# Altium footprint library STM32F4.PcbLib: 30 footprints (part 2 of 2)
Each footprint in its own frame and in the unit in brackets; x right, y up, seen from the top. Pads: shape width x height; smd on the part's side, far side on the other; paste and mask are expansions set on the pad; w line width, h text height; cw(c..) or ccw(c..) is an arc to the next point about the centre after c.
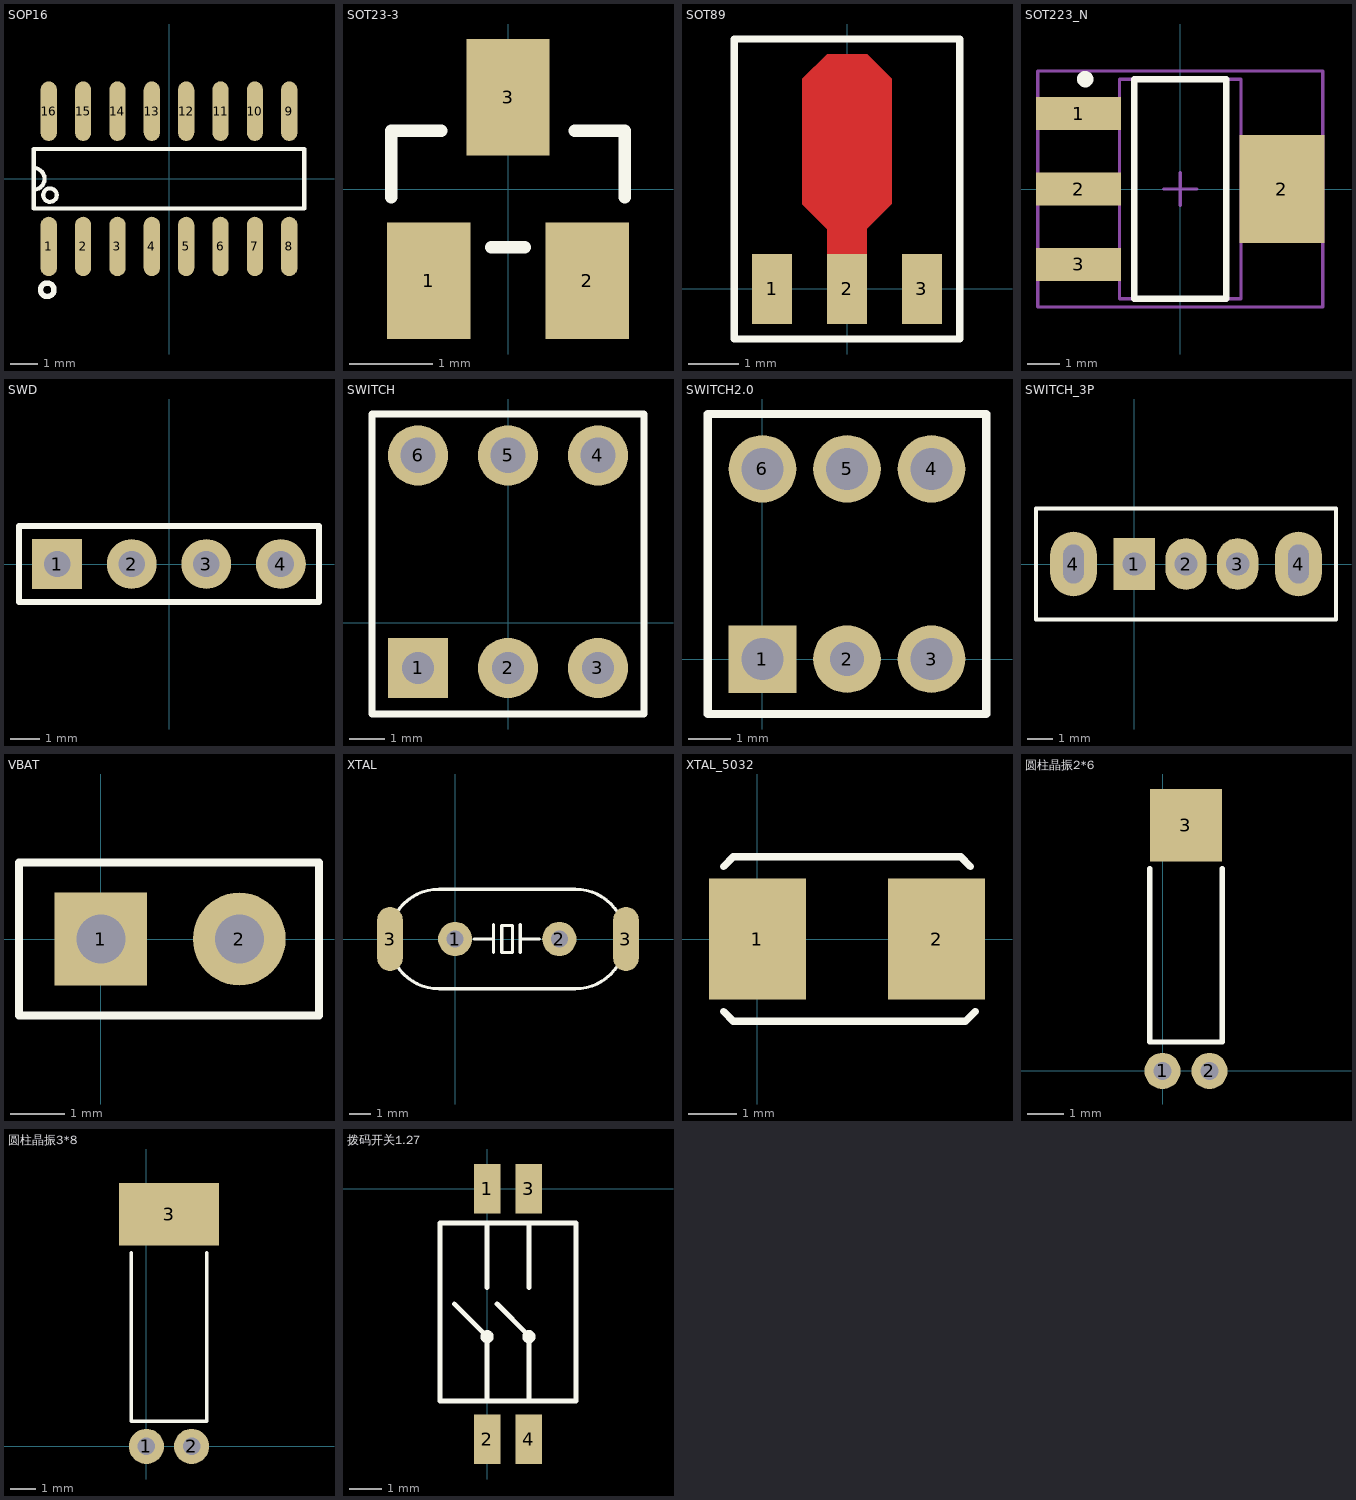
[diagram p1: the footprints below, top view; thin cyan lines are the x and y axes]

## SOP16 [mm]
pads (16):
  oval 0.6x2.2 smd: 1(-4.445,-2.5) 2(-3.175,-2.5) 3(-1.905,-2.5) 4(-0.635,-2.5) 5(0.635,-2.5) 6(1.905,-2.5) 7(3.175,-2.5) 8(4.445,-2.5) 9(4.445,2.5) 10(3.175,2.5) 11(1.905,2.5) 12(0.635,2.5) 13(-0.635,2.5) 14(-1.905,2.5) 15(-3.175,2.5) 16(-4.445,2.5)
Top Overlay:
  circle w0.2: c-4.5,-4.1 r0.25
  circle w0.15: c-4.4,-0.6 r0.25
  lines w0.15: -5,-0.4 ccw(c-5,0) -5,0.4 ; -5,-1.1 5,-1.1 5,1.1 -5,1.1 -5,-1.1

## SOT23-3 [mm]
pads (3):
  rect 1x1.4 smd: 1(-0.95,-1.1) 2(0.95,-1.1) 3(0,1.1)
Top Overlay:
  lines w0.15: -1.4,-0.1 -1.4,0.7 -0.8,0.7 ; -0.2,-0.7 0.2,-0.7 ; 0.8,0.7 1.4,0.7 1.4,-0.1

## SOT89 [mm]
pads (3):
  rect 0.8x1.4 smd: 1(-1.5,0) 2(0,0) 3(1.5,0)
Top Layer:
  rectangle: -0.4,0.6 0.4,1.2
  region: 0,0.8 0.9,1.7 0,2.6 -0.9,1.7
  rectangle: -0.9,1.7 0.9,4.2
  rectangle: -0.4,4.1 0.4,4.7
  region: -0.398,3.698 0.102,4.198 -0.4,4.7 -0.9,4.2
  region: 0.402,3.702 0.9,4.2 0.4,4.7 -0.098,4.202
Top Overlay:
  lines w0.15: -2.25,-1 2.25,-1 2.25,5 -2.25,5 -2.25,-1
Top Solder:
  rectangle: -0.5,0.8 0.5,4.8
  rectangle: -1,1.6 1,4.3
  region: 0,0.6 1,1.6 0,2.6 -1,1.6
  region: 0.646,3.946 1,4.3 0.5,4.8 0.146,4.446
  region: -0.146,4.446 -0.5,4.8 -1,4.3 -0.646,3.947

## SOT223_N [mm]
pads (4):
  rect 2.6x1 smd: 1(-3.1,2.3) 2(-3.1,0) 3(-3.1,-2.3)
  rect 2.6x3.3 smd: 2(3.1,0)
Top Overlay:
  circle w0.25: c-2.9,3.35 r0.125
  lines w0.2: -1.4,-3.35 -1.4,3.35 1.4,3.35 1.4,-3.35 -1.4,-3.35
Mechanical 13:
  lines w0.1: -1.85,-3.35 -1.85,3.35 1.85,3.35 1.85,-3.35 -1.85,-3.35
Mechanical 15:
  lines w0.1: -0.5,0 0.5,0 ; 0,-0.5 0,0.5 ; -4.35,-3.6 -4.35,3.6 4.35,3.6 4.35,-3.6 -4.35,-3.6

## SWD [mm]
pads (4):
  rect 1.7x1.7 hole 0.9: 1(-3.81,0)
  round 1.7 hole 0.9: 2(-1.27,0) 3(1.27,0) 4(3.81,0)
Top Overlay:
  lines w0.2: -5.11,-1.3 -5.11,1.3 5.11,1.3 5.11,-1.3 -5.11,-1.3

## SWITCH [mm]
pads (6):
  rect 1.7x1.7 hole 0.9: 1(-2.54,-1.27)
  round 1.7 hole 0.9: 2(0,-1.27) 3(2.54,-1.27)
  round 1.7 hole 1: 4(2.54,4.73) 5(0,4.73) 6(-2.54,4.73)
Top Overlay:
  lines w0.2: -3.84,-2.57 3.84,-2.57 3.84,5.9 -3.84,5.9 -3.84,-2.57

## SWITCH2.0 [mm]
pads (6):
  rect 1.6x1.6 hole 1: 1(0,0)
  round 1.6 hole 0.8: 2(2,0)
  round 1.6 hole 1: 3(4,0) 4(4,4.5) 5(2,4.5) 6(0,4.5)
Top Overlay:
  lines w0.2: -1.3,-1.3 5.3,-1.3 5.3,5.8 -1.3,5.8 -1.3,-1.3

## SWITCH_3P [mm]
pads (5):
  rect 1.6x2 hole 0.9: 1(0,0)
  oval 1.6x2 hole 0.9: 2(2,0) 3(4,0)
  oval 1.8x2.5 hole 1.5 slot 0.8 at 0 deg: 4(-2.35,0) 4(6.35,0)
Top Overlay:
  lines w0.15: -3.8,-2.15 -3.8,2.15 7.8,2.15 7.8,-2.15 -3.8,-2.15

## VBAT [mm]
pads (2):
  rect 1.7x1.7 hole 0.9: 1(0,0)
  round 1.7 hole 0.9: 2(2.54,0)
Top Overlay:
  lines w0.15: -1.5,-1.4 4,-1.4 4,1.4 -0.9,1.4 -1.5,1.4 -1.5,-1.4

## XTAL [mm]
pads (4):
  round 1.6 hole 0.8: 1(0,0) 2(4.88,0)
  oval 1.2x3 smd: 3(-3.048,0) 3(8.001,0)
Top Overlay:
  lines w0.15: 0.889,0 1.8,0 ; 1.8,-0.635 1.8,0.665 ; 3.048,0 3.937,0 ; 3.053,-0.635 3.053,0.665 ; -0.76,-2.33 cw(c-0.76,0) -0.76,2.33 5.64,2.33 cw(c5.64,0) 5.64,-2.33 -0.76,-2.33 ; 2.186,-0.635 2.694,-0.635 2.694,0.635 2.186,0.635 2.186,-0.635

## XTAL_5032 [mm]
pads (2):
  rect 2x2.5 smd: 1(0,0) 2(3.7,0)
Top Overlay:
  lines w0.15: -0.7,-1.5 -0.5,-1.7 0,-1.7 3.7,-1.7 4.3,-1.7 4.5,-1.5 ; -0.7,1.5 -0.5,1.7 ; 4.4,1.5 4.2,1.7 -0.5,1.7 ; -0.5,1.7 -0.5,1.7

## 圆柱晶振2*6 [mm]
pads (3):
  round 1 hole 0.5: 1(0,0) 2(1.3,0)
  rect 2x2 smd: 3(0.65,6.8)
Top Overlay:
  lines w0.15: -0.35,5.6 -0.35,0.8 1.65,0.8 1.65,5.6

## 圆柱晶振3*8 [mm]
pads (3):
  round 1.4 hole 0.7: 1(0,0) 2(1.8,0)
  rect 4x2.5 smd: 3(0.9,9.25)
Top Overlay:
  lines w0.15: -0.6,7.7 -0.6,1 2.4,1 2.4,7.7

## 拨码开关1.27 [mm]
pads (4):
  rect 0.8x1.5 smd: 1(0,0) 2(0,-7.62) 3(1.27,0) 4(1.27,-7.62)
Top Overlay:
  circle w0.2: c0,-4.5 r0.1
  circle w0.2: c1.27,-4.5 r0.1
  lines w0.15: -1,-3.5 0,-4.5 0,-6.45 ; 0,-3 0,-1.1 ; 0.3,-3.5 1.27,-4.47 1.27,-4.5 1.27,-6.45 ; 1.27,-3 1.27,-1.1 ; -1.435,-6.45 2.705,-6.45 2.705,-1.05 -1.435,-1.05 -1.435,-6.45